# EAGLE library part LED_RGB (library microbuilder)
RGB LED Red, Green and Blue LED - PLCC-6 DC Foreward Current: 100mA Foreward Voltage: R = 2.0, G = 3.4, B = 3.6 Viewing Angle: 140°
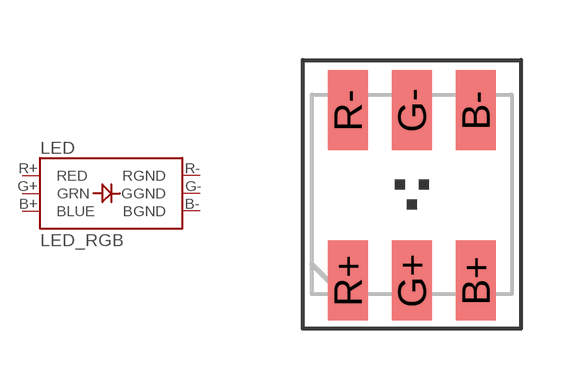
[diagram p27: symbol with the pads of RGBLED_PLCC6; footprint RGBLED_PLCC6]

Designator prefix LED

## LED_RGB  [RGBLED_PLCC6]
B+  BLUE
B-  BGND  pwr
G+  GRN
G-  GGND  pwr
R+  RED
R-  RGND  pwr

## Footprint RGBLED_PLCC6 (pad centres in mm)
RGB LED PLCC-6 5.0mm x 5.0mm 1.5mm Pitch
smd 1 x 2: B+ 1.6,-2.158; B- 1.6,2.108; G+ 0,-2.158; G- 0,2.108; R+ -1.6,-2.158; R- -1.6,2.108